# Altium schematic symbol library BALF-SPI2-02D3.SchLib: 1 symbol
Pins are listed as number, name and electrical type; pins without a type are passive.

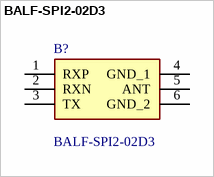
[diagram p0: symbol BALF-SPI2-02D3]

## BALF-SPI2-02D3
designator B?
50  nominal input / conjugate match balun to S2-LP, 433 - 470 MHz with integrated harmonic filter; Manufacturer_Name: STMicroelectronics; Geometry.Height: 0.68mm; Mouser Part Number: 511-BALF-SPI2-02D3; Mouser Price/Stock: https://www.mouser.co.uk/ProductDetail/STMicroelectronics/BALF-SPI2-02D3?qs=MLItCLRbWsy6hxyo9x0oHA%3D%3D; Manufacturer_Part_Number: BALF-SPI2-02D3; Datasheet Link: https://www.st.com/resource/en/datasheet/balf-spi2-02d3.pdf
footprint BALFSPI202D3
pins: 1 RXP, 2 RXN, 3 TX, 4 GND_1, 5 ANT, 6 GND_2